# EAGLE library part X09-2S (library connectors)
Connector 9 pins, with 2 shield pins
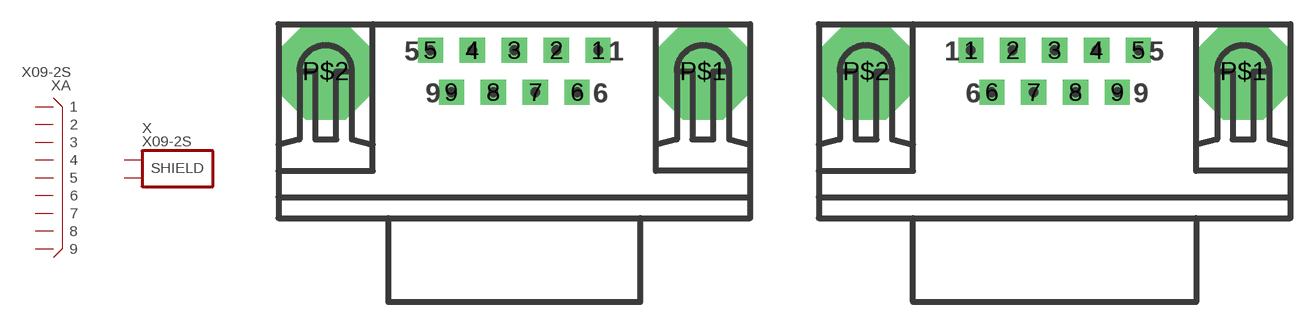
[diagram p67: symbol with the pads of X09-DSUBFEMALE1; footprints X09-DSUBFEMALE1, X09-DSUBMALE1]

Designator prefix X; gates A=X09 S=SHIELD2

## X09-2S-DFEM  [X09-DSUBFEMALE1]
1  A:1
2  A:2
3  A:3
4  A:4
5  A:5
6  A:6
7  A:7
8  A:8
9  A:9
P$1  S:S1
P$2  S:S2

## X09-2S-DMAL  [X09-DSUBMALE1]
Pads as for X09-DSUBFEMALE1

## Footprint X09-DSUBFEMALE1 (pad centres in mm)
D-SUB connector 9 pins, female American size, with shield soldering pads
drill 0.889 pad 1.651 square: 1 5.5,1.375; 2 2.75,1.375; 3 0,1.375; 4 -2.75,1.375; 5 -5.5,1.375; 6 4.125,-1.375; 7 1.375,-1.375; 8 -1.375,-1.375; 9 -4.125,-1.375
drill 3.175 pad 6.35 octagon: P$1 12.375,0; P$2 -12.375,0

## Footprint X09-DSUBMALE1 (pad centres in mm)
D-SUB connector 9 pins, male American size, with shield soldering pads
drill 0.889 pad 1.651 square: 1 -5.5,1.375; 2 -2.75,1.375; 3 0,1.375; 4 2.75,1.375; 5 5.5,1.375; 6 -4.125,-1.375; 7 -1.375,-1.375; 8 1.375,-1.375; 9 4.125,-1.375
drill 3.175 pad 6.35 octagon: P$1 12.375,0; P$2 -12.375,0